# Altium schematic symbol library FSUSB42MUX.SchLib: 1 symbol
Pins are listed as number, name and electrical type; pins without a type are passive.

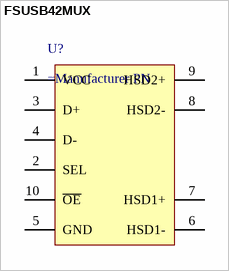
[diagram p0: symbol FSUSB42MUX]

## FSUSB42MUX
designator U?
High Speed USB 2.0 Switch
pins: 1 VCC, 2 SEL, 3 D+, 4 D-, 5 GND, 6 HSD1-, 7 HSD1+, 8 HSD2-, 9 HSD2+, 10 ~{OE}